# Altium integrated library Linear Technology Power Management LDO Linear Regulators.IntLib: 2339 symbols (part 13 of 131)
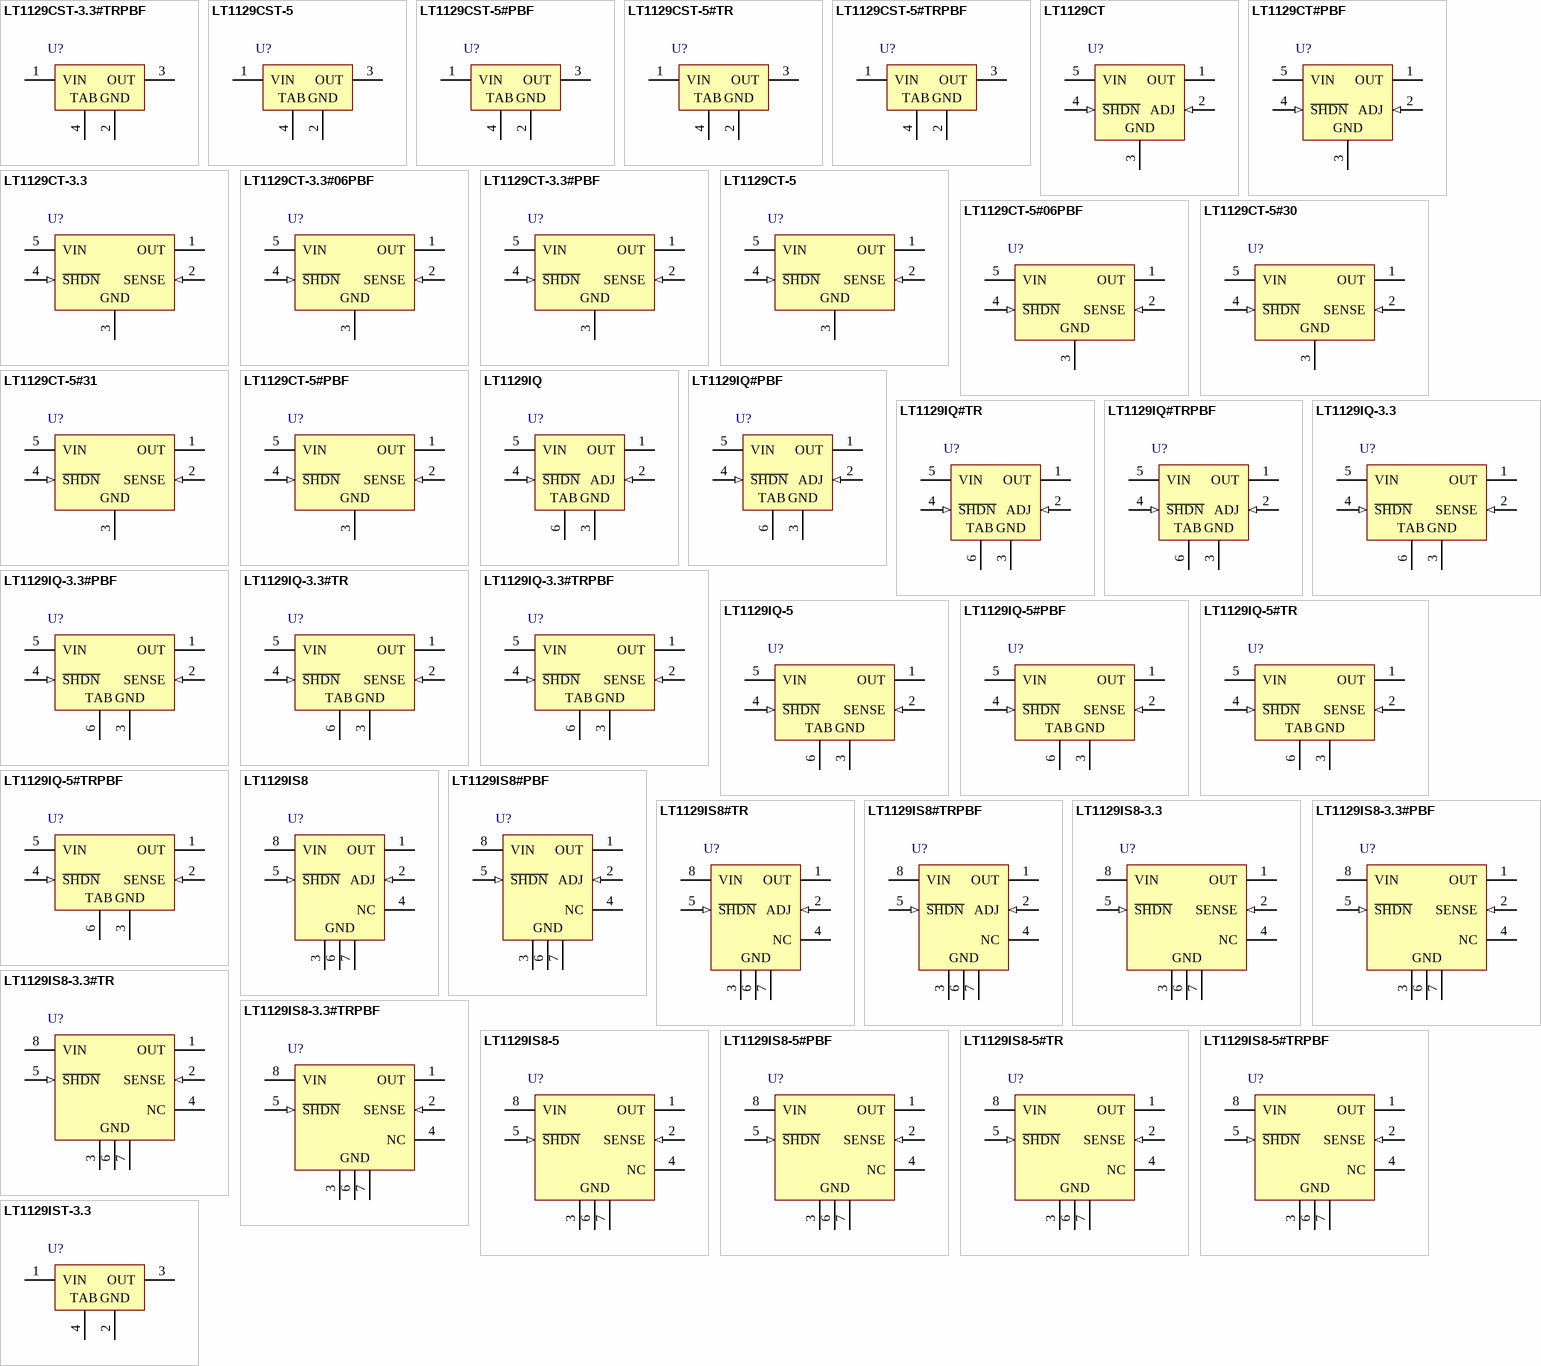
[diagram p81: symbols LT1129CST-3.3#TRPBF to LT1129IST-3.3]

## LT1129CST-3.3#TRPBF
designator U?
Micropower Low Dropout Regulator with Shutdown, 4.15 to 30 V Vin, 3.3 V Vout, 3-pin SOT223 (ST-3), 0 to 125 degC, Pb-Free, Tape and Reel; Manufacturer: Linear Technology; PartNumber: LT1129CST-3.3#TRPBF; Discrete Pass Element: no; Dropout Voltage(V): 0.45; Iout(mA): 700; Isupply(mA): 0.05; Number of Outputs: 1; Output Voltage: 3.3 V; PSRR(dB): 64; Shutdown Current(uA): 16; Vin Max(V): 30; Vin Min(V): 4.15; DatasheetVersion: Rev. F; PackageVersion: Jun-10; PackageReference: ST-3; PackageDescription: 3-Pin Plastic SOT-223, 3.505 x 6.505 mm Body, Pitch 2.3 mm; Supplier 1: Digi-Key; Supplier Part Number 1: LT1129CST-3.3#TRPBF-ND; Supplier 2: Newark; Supplier Part Number 2: 57M2067; Packing: Tape and Reel; RoHS: TRUE; Mounting Technology: Surface Mount; ComponentLink1Description: Manufacturer URL; ComponentLink1URL: http://www.linear.com/; ComponentLink2Description: Datasheet; ComponentLink2URL: http://cds.linear.com/docs/en/datasheet/112935ff.pdf; ComponentLink3Description: Package Specification; ComponentLink3URL: http://cds.linear.com/docs/en/packaging/SOT_3_05-08-1630.pdf
footprint LT-ST-3-SOT-223_N (SOT223, 4-Leads, Body 6.505x3.505mm, Pitch 2.3mm, IPC Medium Density)
footprint LT-ST-3-SOT-223_L (SOT223, 4-Leads, Body 6.505x3.505mm, Pitch 2.3mm, IPC High Density)
footprint LT-ST-3-SOT-223_M (SOT223, 4-Leads, Body 6.505x3.505mm, Pitch 2.3mm, IPC Low Density)
pins: 1 VIN (power) "Power is supplied to the device through the input pin. The input pin should be bypassed to ground if the device is more than 6 inches away from the main input filter capacitor. In general, the output impedance of a battery (See Datasheet)", 2 GND (power), 3 OUT (power) "The output pin supplies power to the load. An output capacitor is required to prevent oscillations. See the Applications Information section for recommended value of output capacitance and information on reverse output (See Datasheet)", 4 TAB (power)

## LT1129CST-5
designator U?
Micropower Low Dropout Regulator with Shutdown, 4.15 to 30 V Vin, 5 V Vout, 3-pin SOT223 (ST-3), 0 to 125 degC; Manufacturer: Linear Technology; PartNumber: LT1129CST-5; Discrete Pass Element: no; Dropout Voltage(V): 0.45; Iout(mA): 700; Isupply(mA): 0.05; Number of Outputs: 1; Output Voltage: 5 V; PSRR(dB): 64; Shutdown Current(uA): 16; Vin Max(V): 30; Vin Min(V): 4.15; DatasheetVersion: Rev. F; PackageVersion: Jun-10; PackageReference: ST-3; PackageDescription: 3-Pin Plastic SOT-223, 3.505 x 6.505 mm Body, Pitch 2.3 mm; Supplier 1: Digi-Key; Supplier Part Number 1: LT1129CST-5-ND; Supplier 2: Newark; Supplier Part Number 2: 57M2068; RoHS: FALSE; Mounting Technology: Surface Mount; ComponentLink1Description: Manufacturer URL; ComponentLink1URL: http://www.linear.com/; ComponentLink2Description: Datasheet; ComponentLink2URL: http://cds.linear.com/docs/en/datasheet/112935ff.pdf; ComponentLink3Description: Package Specification; ComponentLink3URL: http://cds.linear.com/docs/en/packaging/SOT_3_05-08-1630.pdf
footprint LT-ST-3-SOT-223_N (SOT223, 4-Leads, Body 6.505x3.505mm, Pitch 2.3mm, IPC Medium Density)
footprint LT-ST-3-SOT-223_L (SOT223, 4-Leads, Body 6.505x3.505mm, Pitch 2.3mm, IPC High Density)
footprint LT-ST-3-SOT-223_M (SOT223, 4-Leads, Body 6.505x3.505mm, Pitch 2.3mm, IPC Low Density)
pins: 1 VIN (power) "Power is supplied to the device through the input pin. The input pin should be bypassed to ground if the device is more than 6 inches away from the main input filter capacitor. In general, the output impedance of a battery (See Datasheet)", 2 GND (power), 3 OUT (power) "The output pin supplies power to the load. An output capacitor is required to prevent oscillations. See the Applications Information section for recommended value of output capacitance and information on reverse output (See Datasheet)", 4 TAB (power)

## LT1129CST-5#PBF
designator U?
Micropower Low Dropout Regulator with Shutdown, 4.15 to 30 V Vin, 5 V Vout, 3-pin SOT223 (ST-3), 0 to 125 degC, Pb-Free; Manufacturer: Linear Technology; PartNumber: LT1129CST-5#PBF; Discrete Pass Element: no; Dropout Voltage(V): 0.45; Iout(mA): 700; Isupply(mA): 0.05; Number of Outputs: 1; Output Voltage: 5 V; PSRR(dB): 64; Shutdown Current(uA): 16; Vin Max(V): 30; Vin Min(V): 4.15; DatasheetVersion: Rev. F; PackageVersion: Jun-10; PackageReference: ST-3; PackageDescription: 3-Pin Plastic SOT-223, 3.505 x 6.505 mm Body, Pitch 2.3 mm; Supplier 1: Digi-Key; Supplier Part Number 1: LT1129CST-5#PBF-ND; Supplier 2: Farnell; Supplier Part Number 2: 1663375; Supplier 3: Newark; Supplier Part Number 3: 57M2069; RoHS: TRUE; Mounting Technology: Surface Mount; ComponentLink1Description: Manufacturer URL; ComponentLink1URL: http://www.linear.com/; ComponentLink2Description: Datasheet; ComponentLink2URL: http://cds.linear.com/docs/en/datasheet/112935ff.pdf; ComponentLink3Description: Package Specification; ComponentLink3URL: http://cds.linear.com/docs/en/packaging/SOT_3_05-08-1630.pdf
footprint LT-ST-3-SOT-223_N (SOT223, 4-Leads, Body 6.505x3.505mm, Pitch 2.3mm, IPC Medium Density)
footprint LT-ST-3-SOT-223_L (SOT223, 4-Leads, Body 6.505x3.505mm, Pitch 2.3mm, IPC High Density)
footprint LT-ST-3-SOT-223_M (SOT223, 4-Leads, Body 6.505x3.505mm, Pitch 2.3mm, IPC Low Density)
pins: 1 VIN (power) "Power is supplied to the device through the input pin. The input pin should be bypassed to ground if the device is more than 6 inches away from the main input filter capacitor. In general, the output impedance of a battery (See Datasheet)", 2 GND (power), 3 OUT (power) "The output pin supplies power to the load. An output capacitor is required to prevent oscillations. See the Applications Information section for recommended value of output capacitance and information on reverse output (See Datasheet)", 4 TAB (power)

## LT1129CST-5#TR
designator U?
Micropower Low Dropout Regulator with Shutdown, 4.15 to 30 V Vin, 5 V Vout, 3-pin SOT223 (ST-3), 0 to 125 degC, Tape and Reel; Manufacturer: Linear Technology; PartNumber: LT1129CST-5#TR; Discrete Pass Element: no; Dropout Voltage(V): 0.45; Iout(mA): 700; Isupply(mA): 0.05; Number of Outputs: 1; Output Voltage: 5 V; PSRR(dB): 64; Shutdown Current(uA): 16; Vin Max(V): 30; Vin Min(V): 4.15; DatasheetVersion: Rev. F; PackageVersion: Jun-10; PackageReference: ST-3; PackageDescription: 3-Pin Plastic SOT-223, 3.505 x 6.505 mm Body, Pitch 2.3 mm; Supplier 1: Digi-Key; Supplier Part Number 1: LT1129CST-5#TR-ND; Packing: Tape and Reel; RoHS: FALSE; Mounting Technology: Surface Mount; ComponentLink1Description: Manufacturer URL; ComponentLink1URL: http://www.linear.com/; ComponentLink2Description: Datasheet; ComponentLink2URL: http://cds.linear.com/docs/en/datasheet/112935ff.pdf; ComponentLink3Description: Package Specification; ComponentLink3URL: http://cds.linear.com/docs/en/packaging/SOT_3_05-08-1630.pdf
footprint LT-ST-3-SOT-223_N (SOT223, 4-Leads, Body 6.505x3.505mm, Pitch 2.3mm, IPC Medium Density)
footprint LT-ST-3-SOT-223_L (SOT223, 4-Leads, Body 6.505x3.505mm, Pitch 2.3mm, IPC High Density)
footprint LT-ST-3-SOT-223_M (SOT223, 4-Leads, Body 6.505x3.505mm, Pitch 2.3mm, IPC Low Density)
pins: 1 VIN (power) "Power is supplied to the device through the input pin. The input pin should be bypassed to ground if the device is more than 6 inches away from the main input filter capacitor. In general, the output impedance of a battery (See Datasheet)", 2 GND (power), 3 OUT (power) "The output pin supplies power to the load. An output capacitor is required to prevent oscillations. See the Applications Information section for recommended value of output capacitance and information on reverse output (See Datasheet)", 4 TAB (power)

## LT1129CST-5#TRPBF
designator U?
Micropower Low Dropout Regulator with Shutdown, 4.15 to 30 V Vin, 5 V Vout, 3-pin SOT223 (ST-3), 0 to 125 degC, Pb-Free, Tape and Reel; Manufacturer: Linear Technology; PartNumber: LT1129CST-5#TRPBF; Discrete Pass Element: no; Dropout Voltage(V): 0.45; Iout(mA): 700; Isupply(mA): 0.05; Number of Outputs: 1; Output Voltage: 5 V; PSRR(dB): 64; Shutdown Current(uA): 16; Vin Max(V): 30; Vin Min(V): 4.15; DatasheetVersion: Rev. F; PackageVersion: Jun-10; PackageReference: ST-3; PackageDescription: 3-Pin Plastic SOT-223, 3.505 x 6.505 mm Body, Pitch 2.3 mm; Supplier 1: Digi-Key; Supplier Part Number 1: LT1129CST-5#TRPBF-ND; Supplier 2: Newark; Supplier Part Number 2: 57M2071; Packing: Tape and Reel; RoHS: TRUE; Mounting Technology: Surface Mount; ComponentLink1Description: Manufacturer URL; ComponentLink1URL: http://www.linear.com/; ComponentLink2Description: Datasheet; ComponentLink2URL: http://cds.linear.com/docs/en/datasheet/112935ff.pdf; ComponentLink3Description: Package Specification; ComponentLink3URL: http://cds.linear.com/docs/en/packaging/SOT_3_05-08-1630.pdf
footprint LT-ST-3-SOT-223_N (SOT223, 4-Leads, Body 6.505x3.505mm, Pitch 2.3mm, IPC Medium Density)
footprint LT-ST-3-SOT-223_L (SOT223, 4-Leads, Body 6.505x3.505mm, Pitch 2.3mm, IPC High Density)
footprint LT-ST-3-SOT-223_M (SOT223, 4-Leads, Body 6.505x3.505mm, Pitch 2.3mm, IPC Low Density)
pins: 1 VIN (power) "Power is supplied to the device through the input pin. The input pin should be bypassed to ground if the device is more than 6 inches away from the main input filter capacitor. In general, the output impedance of a battery (See Datasheet)", 2 GND (power), 3 OUT (power) "The output pin supplies power to the load. An output capacitor is required to prevent oscillations. See the Applications Information section for recommended value of output capacitance and information on reverse output (See Datasheet)", 4 TAB (power)

## LT1129CT
designator U?
Micropower Low Dropout Regulator with Shutdown, 4.15 to 30 V Vin, Adjustable Vout, 5-pin FM (T-5), 0 to 125 degC; Manufacturer: Linear Technology; PartNumber: LT1129CT; Discrete Pass Element: no; Dropout Voltage(V): 0.45; Iout(mA): 700; Isupply(mA): 0.05; Number of Outputs: 1; Output Voltage: Adj; PSRR(dB): 64; Shutdown Current(uA): 16; Vin Max(V): 30; Vin Min(V): 4.15; Vout Min(V): 3.8; DatasheetVersion: Rev. F; PackageVersion: Aug-10; PackageReference: T-5; PackageDescription: 5-Pin Plastic TO-220 (Standard), Body 10.224 x 8.89 mm, Pitch 1.7 mm; Supplier 1: Digi-Key; Supplier Part Number 1: LT1129CT-ND; RoHS: FALSE; Vout Max(V): 30; Mounting Technology: Through Hole; ComponentLink1Description: Manufacturer URL; ComponentLink1URL: http://www.linear.com/; ComponentLink2Description: Datasheet; ComponentLink2URL: http://cds.linear.com/docs/en/datasheet/112935ff.pdf; ComponentLink3Description: Package Specification; ComponentLink3URL: http://cds.linear.com/docs/en/packaging/TO-220_5_05-08-1421.pdf
footprint LT-T-5-S (FM, 5-Leads, Body 10.2235x4.3815mm, Pitch 1.7mm)
pins: 1 OUT (power), 2 ADJ (in), 3 GND (power), 4 ~{SHDN} (in), 5 VIN (power)

## LT1129CT#PBF
designator U?
Micropower Low Dropout Regulator with Shutdown, 4.15 to 30 V Vin, Adjustable Vout, 5-pin FM (T-5), 0 to 125 degC, Pb-Free; Manufacturer: Linear Technology; PartNumber: LT1129CT#PBF; Discrete Pass Element: no; Dropout Voltage(V): 0.45; Iout(mA): 700; Isupply(mA): 0.05; Number of Outputs: 1; Output Voltage: Adj; PSRR(dB): 64; Shutdown Current(uA): 16; Vin Max(V): 30; Vin Min(V): 4.15; Vout Min(V): 3.8; DatasheetVersion: Rev. F; PackageVersion: Aug-10; PackageReference: T-5; PackageDescription: 5-Pin Plastic TO-220 (Standard), Body 10.224 x 8.89 mm, Pitch 1.7 mm; Supplier 1: Digi-Key; Supplier Part Number 1: LT1129CT#PBF-ND; Supplier 2: Farnell; Supplier Part Number 2: 9560092; Supplier 3: Newark; Supplier Part Number 3: 57M2089; RoHS: TRUE; Vout Max(V): 30; Mounting Technology: Through Hole; ComponentLink1Description: Manufacturer URL; ComponentLink1URL: http://www.linear.com/; ComponentLink2Description: Datasheet; ComponentLink2URL: http://cds.linear.com/docs/en/datasheet/112935ff.pdf; ComponentLink3Description: Package Specification; ComponentLink3URL: http://cds.linear.com/docs/en/packaging/TO-220_5_05-08-1421.pdf
footprint LT-T-5-S (FM, 5-Leads, Body 10.2235x4.3815mm, Pitch 1.7mm)
pins: 1 OUT (power), 2 ADJ (in), 3 GND (power), 4 ~{SHDN} (in), 5 VIN (power)

## LT1129CT-3.3
designator U?
Micropower Low Dropout Regulator with Shutdown, 4.15 to 30 V Vin, 3.3 V Vout, 5-pin FM (T-5), 0 to 125 degC; Manufacturer: Linear Technology; PartNumber: LT1129CT-3.3; Discrete Pass Element: no; Dropout Voltage(V): 0.45; Iout(mA): 700; Isupply(mA): 0.05; Number of Outputs: 1; Output Voltage: 3.3 V; PSRR(dB): 64; Shutdown Current(uA): 16; Vin Max(V): 30; Vin Min(V): 4.15; DatasheetVersion: Rev. F; PackageVersion: Aug-10; PackageReference: T-5; PackageDescription: 5-Pin Plastic TO-220 (Standard), Body 10.224 x 8.89 mm, Pitch 1.7 mm; Supplier 1: Digi-Key; Supplier Part Number 1: LT1129CT-3.3-ND; RoHS: FALSE; Mounting Technology: Through Hole; ComponentLink1Description: Manufacturer URL; ComponentLink1URL: http://www.linear.com/; ComponentLink2Description: Datasheet; ComponentLink2URL: http://cds.linear.com/docs/en/datasheet/112935ff.pdf; ComponentLink3Description: Package Specification; ComponentLink3URL: http://cds.linear.com/docs/en/packaging/TO-220_5_05-08-1421.pdf
footprint LT-T-5-S (FM, 5-Leads, Body 10.2235x4.3815mm, Pitch 1.7mm)
pins: 1 OUT (power) "OUTPUT Pin.", 2 SENSE (in), 3 GND (power), 4 ~{SHDN} (in) "Shutdown Pin.", 5 VIN (power) "Input Pin."

## LT1129CT-3.3#06PBF
designator U?
Micropower Low Dropout Regulator with Shutdown, 4.15 to 30 V Vin, 3.3 V Vout, 5-pin FM (T-5), 0 to 125 degC, Pb-Free; Manufacturer: Linear Technology; PartNumber: LT1129CT-3.3#06PBF; Discrete Pass Element: no; Dropout Voltage(V): 0.45; Iout(mA): 700; Isupply(mA): 0.05; Number of Outputs: 1; Output Voltage: 3.3 V; PSRR(dB): 64; Shutdown Current(uA): 16; Vin Max(V): 30; Vin Min(V): 4.15; DatasheetVersion: Rev. F; PackageVersion: Aug-10; PackageReference: T-5; PackageDescription: 5-Pin Plastic TO-220 (Standard), Body 10.224 x 8.89 mm, Pitch 1.7 mm; Supplier 1: Digi-Key; Supplier Part Number 1: LT1129CT-3.3#06PBF-ND; RoHS: TRUE; Mounting Technology: Through Hole; ComponentLink1Description: Manufacturer URL; ComponentLink1URL: http://www.linear.com/; ComponentLink2Description: Datasheet; ComponentLink2URL: http://cds.linear.com/docs/en/datasheet/112935ff.pdf; ComponentLink3Description: Package Specification; ComponentLink3URL: http://cds.linear.com/docs/en/packaging/TO-220_5_05-08-1421.pdf
footprint LT-T-5-S (FM, 5-Leads, Body 10.2235x4.3815mm, Pitch 1.7mm)
pins: 1 OUT (power) "OUTPUT Pin.", 2 SENSE (in), 3 GND (power), 4 ~{SHDN} (in) "Shutdown Pin.", 5 VIN (power) "Input Pin."

## LT1129CT-3.3#PBF
designator U?
Micropower Low Dropout Regulator with Shutdown, 4.15 to 30 V Vin, 3.3 V Vout, 5-pin FM (T-5), 0 to 125 degC, Pb-Free; Manufacturer: Linear Technology; PartNumber: LT1129CT-3.3#PBF; Discrete Pass Element: no; Dropout Voltage(V): 0.45; Iout(mA): 700; Isupply(mA): 0.05; Number of Outputs: 1; Output Voltage: 3.3 V; PSRR(dB): 64; Shutdown Current(uA): 16; Vin Max(V): 30; Vin Min(V): 4.15; DatasheetVersion: Rev. F; PackageVersion: Aug-10; PackageReference: T-5; PackageDescription: 5-Pin Plastic TO-220 (Standard), Body 10.224 x 8.89 mm, Pitch 1.7 mm; Supplier 1: Digi-Key; Supplier Part Number 1: LT1129CT-3.3#PBF-ND; RoHS: TRUE; Mounting Technology: Through Hole; ComponentLink1Description: Manufacturer URL; ComponentLink1URL: http://www.linear.com/; ComponentLink2Description: Datasheet; ComponentLink2URL: http://cds.linear.com/docs/en/datasheet/112935ff.pdf; ComponentLink3Description: Package Specification; ComponentLink3URL: http://cds.linear.com/docs/en/packaging/TO-220_5_05-08-1421.pdf
footprint LT-T-5-S (FM, 5-Leads, Body 10.2235x4.3815mm, Pitch 1.7mm)
pins: 1 OUT (power) "OUTPUT Pin.", 2 SENSE (in), 3 GND (power), 4 ~{SHDN} (in) "Shutdown Pin.", 5 VIN (power) "Input Pin."

## LT1129CT-5
designator U?
Micropower Low Dropout Regulator with Shutdown, 4.15 to 30 V Vin, 5 V Vout, 5-pin FM (T-5), 0 to 125 degC; Manufacturer: Linear Technology; PartNumber: LT1129CT-5; Discrete Pass Element: no; Dropout Voltage(V): 0.45; Iout(mA): 700; Isupply(mA): 0.05; Number of Outputs: 1; Output Voltage: 5 V; PSRR(dB): 64; Shutdown Current(uA): 16; Vin Max(V): 30; Vin Min(V): 4.15; DatasheetVersion: Rev. F; PackageVersion: Aug-10; PackageReference: T-5; PackageDescription: 5-Pin Plastic TO-220 (Standard), Body 10.224 x 8.89 mm, Pitch 1.7 mm; Supplier 1: Digi-Key; Supplier Part Number 1: LT1129CT-5-ND; RoHS: FALSE; Mounting Technology: Through Hole; ComponentLink1Description: Manufacturer URL; ComponentLink1URL: http://www.linear.com/; ComponentLink2Description: Datasheet; ComponentLink2URL: http://cds.linear.com/docs/en/datasheet/112935ff.pdf; ComponentLink3Description: Package Specification; ComponentLink3URL: http://cds.linear.com/docs/en/packaging/TO-220_5_05-08-1421.pdf
footprint LT-T-5-S (FM, 5-Leads, Body 10.2235x4.3815mm, Pitch 1.7mm)
pins: 1 OUT (power) "OUTPUT Pin.", 2 SENSE (in), 3 GND (power), 4 ~{SHDN} (in) "Shutdown Pin.", 5 VIN (power) "Input Pin."

## LT1129CT-5#06PBF
designator U?
Micropower Low Dropout Regulator with Shutdown, 4.15 to 30 V Vin, 5 V Vout, 5-pin FM (T-5), 0 to 125 degC, Pb-Free; Manufacturer: Linear Technology; PartNumber: LT1129CT-5#06PBF; Discrete Pass Element: no; Dropout Voltage(V): 0.45; Iout(mA): 700; Isupply(mA): 0.05; Number of Outputs: 1; Output Voltage: 5 V; PSRR(dB): 64; Shutdown Current(uA): 16; Vin Max(V): 30; Vin Min(V): 4.15; DatasheetVersion: Rev. F; PackageVersion: Aug-10; PackageReference: T-5; PackageDescription: 5-Pin Plastic TO-220 (Standard), Body 10.224 x 8.89 mm, Pitch 1.7 mm; Supplier 1: Digi-Key; Supplier Part Number 1: LT1129CT-5#06PBF-ND; RoHS: TRUE; Mounting Technology: Through Hole; ComponentLink1Description: Manufacturer URL; ComponentLink1URL: http://www.linear.com/; ComponentLink2Description: Datasheet; ComponentLink2URL: http://cds.linear.com/docs/en/datasheet/112935ff.pdf; ComponentLink3Description: Package Specification; ComponentLink3URL: http://cds.linear.com/docs/en/packaging/TO-220_5_05-08-1421.pdf
footprint LT-T-5-S (FM, 5-Leads, Body 10.2235x4.3815mm, Pitch 1.7mm)
pins: 1 OUT (power) "OUTPUT Pin.", 2 SENSE (in), 3 GND (power), 4 ~{SHDN} (in) "Shutdown Pin.", 5 VIN (power) "Input Pin."

## LT1129CT-5#30
designator U?
Micropower Low Dropout Regulator with Shutdown, 4.15 to 30 V Vin, 5 V Vout, 5-pin FM (T-5), 0 to 125 degC; Manufacturer: Linear Technology; PartNumber: LT1129CT-5#30; Discrete Pass Element: no; Dropout Voltage(V): 0.45; Iout(mA): 700; Isupply(mA): 0.05; Number of Outputs: 1; Output Voltage: 5 V; PSRR(dB): 64; Shutdown Current(uA): 16; Vin Max(V): 30; Vin Min(V): 4.15; DatasheetVersion: Rev. F; PackageVersion: Aug-10; PackageReference: T-5; PackageDescription: 5-Pin Plastic TO-220 (Standard), Body 10.224 x 8.89 mm, Pitch 1.7 mm; RoHS: FALSE; Mounting Technology: Through Hole; ComponentLink1Description: Manufacturer URL; ComponentLink1URL: http://www.linear.com/; ComponentLink2Description: Datasheet; ComponentLink2URL: http://cds.linear.com/docs/en/datasheet/112935ff.pdf; ComponentLink3Description: Package Specification; ComponentLink3URL: http://cds.linear.com/docs/en/packaging/TO-220_5_05-08-1421.pdf
footprint LT-T-5-S (FM, 5-Leads, Body 10.2235x4.3815mm, Pitch 1.7mm)
pins: 1 OUT (power) "OUTPUT Pin.", 2 SENSE (in), 3 GND (power), 4 ~{SHDN} (in) "Shutdown Pin.", 5 VIN (power) "Input Pin."

## LT1129CT-5#31
designator U?
Micropower Low Dropout Regulator with Shutdown, 4.15 to 30 V Vin, 5 V Vout, 5-pin FM (T-5), 0 to 125 degC; Manufacturer: Linear Technology; PartNumber: LT1129CT-5#31; Discrete Pass Element: no; Dropout Voltage(V): 0.45; Iout(mA): 700; Isupply(mA): 0.05; Number of Outputs: 1; Output Voltage: 5 V; PSRR(dB): 64; Shutdown Current(uA): 16; Vin Max(V): 30; Vin Min(V): 4.15; DatasheetVersion: Rev. F; PackageVersion: Aug-10; PackageReference: T-5; PackageDescription: 5-Pin Plastic TO-220 (Standard), Body 10.224 x 8.89 mm, Pitch 1.7 mm; RoHS: FALSE; Mounting Technology: Through Hole; ComponentLink1Description: Manufacturer URL; ComponentLink1URL: http://www.linear.com/; ComponentLink2Description: Datasheet; ComponentLink2URL: http://cds.linear.com/docs/en/datasheet/112935ff.pdf; ComponentLink3Description: Package Specification; ComponentLink3URL: http://cds.linear.com/docs/en/packaging/TO-220_5_05-08-1421.pdf
footprint LT-T-5-S (FM, 5-Leads, Body 10.2235x4.3815mm, Pitch 1.7mm)
pins: 1 OUT (power) "OUTPUT Pin.", 2 SENSE (in), 3 GND (power), 4 ~{SHDN} (in) "Shutdown Pin.", 5 VIN (power) "Input Pin."

## LT1129CT-5#PBF
designator U?
Micropower Low Dropout Regulator with Shutdown, 4.15 to 30 V Vin, 5 V Vout, 5-pin FM (T-5), 0 to 125 degC, Pb-Free; Manufacturer: Linear Technology; PartNumber: LT1129CT-5#PBF; Discrete Pass Element: no; Dropout Voltage(V): 0.45; Iout(mA): 700; Isupply(mA): 0.05; Number of Outputs: 1; Output Voltage: 5 V; PSRR(dB): 64; Shutdown Current(uA): 16; Vin Max(V): 30; Vin Min(V): 4.15; DatasheetVersion: Rev. F; PackageVersion: Aug-10; PackageReference: T-5; PackageDescription: 5-Pin Plastic TO-220 (Standard), Body 10.224 x 8.89 mm, Pitch 1.7 mm; Supplier 1: Digi-Key; Supplier Part Number 1: LT1129CT-5#PBF-ND; Supplier 2: Farnell; Supplier Part Number 2: 1627500; Supplier 3: Newark; Supplier Part Number 3: 57M2088; RoHS: TRUE; Mounting Technology: Through Hole; ComponentLink1Description: Manufacturer URL; ComponentLink1URL: http://www.linear.com/; ComponentLink2Description: Datasheet; ComponentLink2URL: http://cds.linear.com/docs/en/datasheet/112935ff.pdf; ComponentLink3Description: Package Specification; ComponentLink3URL: http://cds.linear.com/docs/en/packaging/TO-220_5_05-08-1421.pdf
footprint LT-T-5-S (FM, 5-Leads, Body 10.2235x4.3815mm, Pitch 1.7mm)
pins: 1 OUT (power) "OUTPUT Pin.", 2 SENSE (in), 3 GND (power), 4 ~{SHDN} (in) "Shutdown Pin.", 5 VIN (power) "Input Pin."

## LT1129IQ
designator U?
Micropower Low Dropout Regulator with Shutdown, 4.15 to 30 V Vin, Adjustable Vout, 5-pin DPAK (Q-5), -40 to 125 degC; Manufacturer: Linear Technology; PartNumber: LT1129IQ; Discrete Pass Element: no; Dropout Voltage(V): 0.45; Iout(mA): 700; Isupply(mA): 0.05; Number of Outputs: 1; Output Voltage: Adj; PSRR(dB): 64; Shutdown Current(uA): 16; Vin Max(V): 30; Vin Min(V): 4.15; Vout Min(V): 3.8; DatasheetVersion: Rev. F; PackageVersion: Rev. F, 09/2011; PackageReference: Q-5; PackageDescription: 5-Pin Plastic DD Pak, Body 10.2235 x 8.89 mm, Pitch 1.702 mm; Supplier 1: Digi-Key; Supplier Part Number 1: LT1129IQ-ND; Supplier 2: Newark; Supplier Part Number 2: 57M2090; RoHS: FALSE; Vout Max(V): 30; Mounting Technology: Surface Mount; ComponentLink1Description: Manufacturer URL; ComponentLink1URL: http://www.linear.com/; ComponentLink2Description: Datasheet; ComponentLink2URL: http://cds.linear.com/docs/en/datasheet/112935ff.pdf; ComponentLink3Description: Package Specification; ComponentLink3URL: http://cds.linear.com/docs/en/packaging/Q%20DD5%2005-08-1461%20Rev%20F.pdf
footprint LT-Q-5_N (DPAK, 5-Leads, Body 10.22x8.89mm, Pitch 1.702mm, IPC Medium Density)
footprint LT-Q-5_L (DPAK, 5-Leads, Body 10.22x8.89mm, Pitch 1.702mm, IPC High Density)
footprint LT-Q-5_M (DPAK, 5-Leads, Body 10.22x8.89mm, Pitch 1.702mm, IPC Low Density)
pins: 1 OUT (power), 2 ADJ (in), 3 GND (power), 4 ~{SHDN} (in), 5 VIN (power), 6 TAB (power)

## LT1129IQ#PBF
designator U?
Micropower Low Dropout Regulator with Shutdown, 4.15 to 30 V Vin, Adjustable Vout, 5-pin DPAK (Q-5), -40 to 125 degC, Pb-Free; Manufacturer: Linear Technology; PartNumber: LT1129IQ#PBF; Discrete Pass Element: no; Dropout Voltage(V): 0.45; Iout(mA): 700; Isupply(mA): 0.05; Number of Outputs: 1; Output Voltage: Adj; PSRR(dB): 64; Shutdown Current(uA): 16; Vin Max(V): 30; Vin Min(V): 4.15; Vout Min(V): 3.8; DatasheetVersion: Rev. F; PackageVersion: Rev. F, 09/2011; PackageReference: Q-5; PackageDescription: 5-Pin Plastic DD Pak, Body 10.2235 x 8.89 mm, Pitch 1.702 mm; Supplier 1: Digi-Key; Supplier Part Number 1: LT1129IQ#PBF-ND; Supplier 2: Farnell; Supplier Part Number 2: 1663376; Supplier 3: Newark; Supplier Part Number 3: 57M2098; RoHS: TRUE; Vout Max(V): 30; Mounting Technology: Surface Mount; ComponentLink1Description: Manufacturer URL; ComponentLink1URL: http://www.linear.com/; ComponentLink2Description: Datasheet; ComponentLink2URL: http://cds.linear.com/docs/en/datasheet/112935ff.pdf; ComponentLink3Description: Package Specification; ComponentLink3URL: http://cds.linear.com/docs/en/packaging/Q%20DD5%2005-08-1461%20Rev%20F.pdf
footprint LT-Q-5_N (DPAK, 5-Leads, Body 10.22x8.89mm, Pitch 1.702mm, IPC Medium Density)
footprint LT-Q-5_L (DPAK, 5-Leads, Body 10.22x8.89mm, Pitch 1.702mm, IPC High Density)
footprint LT-Q-5_M (DPAK, 5-Leads, Body 10.22x8.89mm, Pitch 1.702mm, IPC Low Density)
pins: 1 OUT (power), 2 ADJ (in), 3 GND (power), 4 ~{SHDN} (in), 5 VIN (power), 6 TAB (power)

## LT1129IQ#TR
designator U?
Micropower Low Dropout Regulator with Shutdown, 4.15 to 30 V Vin, Adjustable Vout, 5-pin DPAK (Q-5), -40 to 125 degC, Tape and Reel; Manufacturer: Linear Technology; PartNumber: LT1129IQ#TR; Discrete Pass Element: no; Dropout Voltage(V): 0.45; Iout(mA): 700; Isupply(mA): 0.05; Number of Outputs: 1; Output Voltage: Adj; PSRR(dB): 64; Shutdown Current(uA): 16; Vin Max(V): 30; Vin Min(V): 4.15; Vout Min(V): 3.8; DatasheetVersion: Rev. F; PackageVersion: Rev. F, 09/2011; PackageReference: Q-5; PackageDescription: 5-Pin Plastic DD Pak, Body 10.2235 x 8.89 mm, Pitch 1.702 mm; Supplier 1: Digi-Key; Supplier Part Number 1: LT1129IQ#TR-ND; Supplier 2: Newark; Supplier Part Number 2: 57M2099; Packing: Tape and Reel; RoHS: FALSE; Vout Max(V): 30; Mounting Technology: Surface Mount; ComponentLink1Description: Manufacturer URL; ComponentLink1URL: http://www.linear.com/; ComponentLink2Description: Datasheet; ComponentLink2URL: http://cds.linear.com/docs/en/datasheet/112935ff.pdf; ComponentLink3Description: Package Specification; ComponentLink3URL: http://cds.linear.com/docs/en/packaging/Q%20DD5%2005-08-1461%20Rev%20F.pdf
footprint LT-Q-5_N (DPAK, 5-Leads, Body 10.22x8.89mm, Pitch 1.702mm, IPC Medium Density)
footprint LT-Q-5_L (DPAK, 5-Leads, Body 10.22x8.89mm, Pitch 1.702mm, IPC High Density)
footprint LT-Q-5_M (DPAK, 5-Leads, Body 10.22x8.89mm, Pitch 1.702mm, IPC Low Density)
pins: 1 OUT (power), 2 ADJ (in), 3 GND (power), 4 ~{SHDN} (in), 5 VIN (power), 6 TAB (power)

## LT1129IQ#TRPBF
designator U?
Micropower Low Dropout Regulator with Shutdown, 4.15 to 30 V Vin, Adjustable Vout, 5-pin DPAK (Q-5), -40 to 125 degC, Pb-Free, Tape and Reel; Manufacturer: Linear Technology; PartNumber: LT1129IQ#TRPBF; Discrete Pass Element: no; Dropout Voltage(V): 0.45; Iout(mA): 700; Isupply(mA): 0.05; Number of Outputs: 1; Output Voltage: Adj; PSRR(dB): 64; Shutdown Current(uA): 16; Vin Max(V): 30; Vin Min(V): 4.15; Vout Min(V): 3.8; DatasheetVersion: Rev. F; PackageVersion: Rev. F, 09/2011; PackageReference: Q-5; PackageDescription: 5-Pin Plastic DD Pak, Body 10.2235 x 8.89 mm, Pitch 1.702 mm; Supplier 1: Digi-Key; Supplier Part Number 1: LT1129IQ#TRPBFTR-ND; Supplier 2: Digi-Key; Supplier Part Number 2: LT1129IQ#TRPBFCT-ND; Supplier 3: Digi-Key; Supplier Part Number 3: LT1129IQ#TRPBFDKR-ND; Supplier 4: Newark; Supplier Part Number 4: 57M2100; Packing: Tape and Reel; RoHS: TRUE; Vout Max(V): 30; Mounting Technology: Surface Mount; ComponentLink1Description: Manufacturer URL; ComponentLink1URL: http://www.linear.com/; ComponentLink2Description: Datasheet; ComponentLink2URL: http://cds.linear.com/docs/en/datasheet/112935ff.pdf; ComponentLink3Description: Package Specification; ComponentLink3URL: http://cds.linear.com/docs/en/packaging/Q%20DD5%2005-08-1461%20Rev%20F.pdf
footprint LT-Q-5_N (DPAK, 5-Leads, Body 10.22x8.89mm, Pitch 1.702mm, IPC Medium Density)
footprint LT-Q-5_L (DPAK, 5-Leads, Body 10.22x8.89mm, Pitch 1.702mm, IPC High Density)
footprint LT-Q-5_M (DPAK, 5-Leads, Body 10.22x8.89mm, Pitch 1.702mm, IPC Low Density)
pins: 1 OUT (power), 2 ADJ (in), 3 GND (power), 4 ~{SHDN} (in), 5 VIN (power), 6 TAB (power)

## LT1129IQ-3.3
designator U?
Micropower Low Dropout Regulator with Shutdown, 4.15 to 30 V Vin, 3.3 V Vout, 5-pin DPAK (Q-5), -40 to 125 degC; Manufacturer: Linear Technology; PartNumber: LT1129IQ-3.3; Discrete Pass Element: no; Dropout Voltage(V): 0.45; Iout(mA): 700; Isupply(mA): 0.05; Number of Outputs: 1; Output Voltage: 3.3 V; PSRR(dB): 64; Shutdown Current(uA): 16; Vin Max(V): 30; Vin Min(V): 4.15; DatasheetVersion: Rev. F; PackageVersion: Rev. F, 09/2011; PackageReference: Q-5; PackageDescription: 5-Pin Plastic DD Pak, Body 10.2235 x 8.89 mm, Pitch 1.702 mm; Supplier 1: Digi-Key; Supplier Part Number 1: LT1129IQ-3.3-ND; Supplier 2: Newark; Supplier Part Number 2: 57M2091; RoHS: FALSE; Mounting Technology: Surface Mount; ComponentLink1Description: Manufacturer URL; ComponentLink1URL: http://www.linear.com/; ComponentLink2Description: Datasheet; ComponentLink2URL: http://cds.linear.com/docs/en/datasheet/112935ff.pdf; ComponentLink3Description: Package Specification; ComponentLink3URL: http://cds.linear.com/docs/en/packaging/Q%20DD5%2005-08-1461%20Rev%20F.pdf
footprint LT-Q-5_N (DPAK, 5-Leads, Body 10.22x8.89mm, Pitch 1.702mm, IPC Medium Density)
footprint LT-Q-5_L (DPAK, 5-Leads, Body 10.22x8.89mm, Pitch 1.702mm, IPC High Density)
footprint LT-Q-5_M (DPAK, 5-Leads, Body 10.22x8.89mm, Pitch 1.702mm, IPC Low Density)
pins: 1 OUT (power), 2 SENSE (in), 3 GND (power), 4 ~{SHDN} (in), 5 VIN (power), 6 TAB (power)

## LT1129IQ-3.3#PBF
designator U?
Micropower Low Dropout Regulator with Shutdown, 4.15 to 30 V Vin, 3.3 V Vout, 5-pin DPAK (Q-5), -40 to 125 degC, Pb-Free; Manufacturer: Linear Technology; PartNumber: LT1129IQ-3.3#PBF; Discrete Pass Element: no; Dropout Voltage(V): 0.45; Iout(mA): 700; Isupply(mA): 0.05; Number of Outputs: 1; Output Voltage: 3.3 V; PSRR(dB): 64; Shutdown Current(uA): 16; Vin Max(V): 30; Vin Min(V): 4.15; DatasheetVersion: Rev. F; PackageVersion: Rev. F, 09/2011; PackageReference: Q-5; PackageDescription: 5-Pin Plastic DD Pak, Body 10.2235 x 8.89 mm, Pitch 1.702 mm; Supplier 1: Digi-Key; Supplier Part Number 1: LT1129IQ-3.3#PBF-ND; Supplier 2: Farnell; Supplier Part Number 2: 2164940; Supplier 3: Newark; Supplier Part Number 3: 57M2092; RoHS: TRUE; Mounting Technology: Surface Mount; ComponentLink1Description: Manufacturer URL; ComponentLink1URL: http://www.linear.com/; ComponentLink2Description: Datasheet; ComponentLink2URL: http://cds.linear.com/docs/en/datasheet/112935ff.pdf; ComponentLink3Description: Package Specification; ComponentLink3URL: http://cds.linear.com/docs/en/packaging/Q%20DD5%2005-08-1461%20Rev%20F.pdf
footprint LT-Q-5_N (DPAK, 5-Leads, Body 10.22x8.89mm, Pitch 1.702mm, IPC Medium Density)
footprint LT-Q-5_L (DPAK, 5-Leads, Body 10.22x8.89mm, Pitch 1.702mm, IPC High Density)
footprint LT-Q-5_M (DPAK, 5-Leads, Body 10.22x8.89mm, Pitch 1.702mm, IPC Low Density)
pins: 1 OUT (power), 2 SENSE (in), 3 GND (power), 4 ~{SHDN} (in), 5 VIN (power), 6 TAB (power)

## LT1129IQ-3.3#TR
designator U?
Micropower Low Dropout Regulator with Shutdown, 4.15 to 30 V Vin, 3.3 V Vout, 5-pin DPAK (Q-5), -40 to 125 degC, Tape and Reel; Manufacturer: Linear Technology; PartNumber: LT1129IQ-3.3#TR; Discrete Pass Element: no; Dropout Voltage(V): 0.45; Iout(mA): 700; Isupply(mA): 0.05; Number of Outputs: 1; Output Voltage: 3.3 V; PSRR(dB): 64; Shutdown Current(uA): 16; Vin Max(V): 30; Vin Min(V): 4.15; DatasheetVersion: Rev. F; PackageVersion: Rev. F, 09/2011; PackageReference: Q-5; PackageDescription: 5-Pin Plastic DD Pak, Body 10.2235 x 8.89 mm, Pitch 1.702 mm; Supplier 1: Digi-Key; Supplier Part Number 1: LT1129IQ-3.3#TR-ND; Packing: Tape and Reel; RoHS: FALSE; Mounting Technology: Surface Mount; ComponentLink1Description: Manufacturer URL; ComponentLink1URL: http://www.linear.com/; ComponentLink2Description: Datasheet; ComponentLink2URL: http://cds.linear.com/docs/en/datasheet/112935ff.pdf; ComponentLink3Description: Package Specification; ComponentLink3URL: http://cds.linear.com/docs/en/packaging/Q%20DD5%2005-08-1461%20Rev%20F.pdf
footprint LT-Q-5_N (DPAK, 5-Leads, Body 10.22x8.89mm, Pitch 1.702mm, IPC Medium Density)
footprint LT-Q-5_L (DPAK, 5-Leads, Body 10.22x8.89mm, Pitch 1.702mm, IPC High Density)
footprint LT-Q-5_M (DPAK, 5-Leads, Body 10.22x8.89mm, Pitch 1.702mm, IPC Low Density)
pins: 1 OUT (power), 2 SENSE (in), 3 GND (power), 4 ~{SHDN} (in), 5 VIN (power), 6 TAB (power)

## LT1129IQ-3.3#TRPBF
designator U?
Micropower Low Dropout Regulator with Shutdown, 4.15 to 30 V Vin, 3.3 V Vout, 5-pin DPAK (Q-5), -40 to 125 degC, Pb-Free, Tape and Reel; Manufacturer: Linear Technology; PartNumber: LT1129IQ-3.3#TRPBF; Discrete Pass Element: no; Dropout Voltage(V): 0.45; Iout(mA): 700; Isupply(mA): 0.05; Number of Outputs: 1; Output Voltage: 3.3 V; PSRR(dB): 64; Shutdown Current(uA): 16; Vin Max(V): 30; Vin Min(V): 4.15; DatasheetVersion: Rev. F; PackageVersion: Rev. F, 09/2011; PackageReference: Q-5; PackageDescription: 5-Pin Plastic DD Pak, Body 10.2235 x 8.89 mm, Pitch 1.702 mm; Supplier 1: Digi-Key; Supplier Part Number 1: LT1129IQ-3.3#TRPBF-ND; Supplier 2: Newark; Supplier Part Number 2: 57M2094; Packing: Tape and Reel; RoHS: TRUE; Mounting Technology: Surface Mount; ComponentLink1Description: Manufacturer URL; ComponentLink1URL: http://www.linear.com/; ComponentLink2Description: Datasheet; ComponentLink2URL: http://cds.linear.com/docs/en/datasheet/112935ff.pdf; ComponentLink3Description: Package Specification; ComponentLink3URL: http://cds.linear.com/docs/en/packaging/Q%20DD5%2005-08-1461%20Rev%20F.pdf
footprint LT-Q-5_N (DPAK, 5-Leads, Body 10.22x8.89mm, Pitch 1.702mm, IPC Medium Density)
footprint LT-Q-5_L (DPAK, 5-Leads, Body 10.22x8.89mm, Pitch 1.702mm, IPC High Density)
footprint LT-Q-5_M (DPAK, 5-Leads, Body 10.22x8.89mm, Pitch 1.702mm, IPC Low Density)
pins: 1 OUT (power), 2 SENSE (in), 3 GND (power), 4 ~{SHDN} (in), 5 VIN (power), 6 TAB (power)

## LT1129IQ-5
designator U?
Micropower Low Dropout Regulator with Shutdown, 4.15 to 30 V Vin, 5 V Vout, 5-pin DPAK (Q-5), -40 to 125 degC; Manufacturer: Linear Technology; PartNumber: LT1129IQ-5; Discrete Pass Element: no; Dropout Voltage(V): 0.45; Iout(mA): 700; Isupply(mA): 0.05; Number of Outputs: 1; Output Voltage: 5 V; PSRR(dB): 64; Shutdown Current(uA): 16; Vin Max(V): 30; Vin Min(V): 4.15; DatasheetVersion: Rev. F; PackageVersion: Rev. F, 09/2011; PackageReference: Q-5; PackageDescription: 5-Pin Plastic DD Pak, Body 10.2235 x 8.89 mm, Pitch 1.702 mm; Supplier 1: Digi-Key; Supplier Part Number 1: LT1129IQ-5-ND; RoHS: FALSE; Mounting Technology: Surface Mount; ComponentLink1Description: Manufacturer URL; ComponentLink1URL: http://www.linear.com/; ComponentLink2Description: Datasheet; ComponentLink2URL: http://cds.linear.com/docs/en/datasheet/112935ff.pdf; ComponentLink3Description: Package Specification; ComponentLink3URL: http://cds.linear.com/docs/en/packaging/Q%20DD5%2005-08-1461%20Rev%20F.pdf
footprint LT-Q-5_N (DPAK, 5-Leads, Body 10.22x8.89mm, Pitch 1.702mm, IPC Medium Density)
footprint LT-Q-5_L (DPAK, 5-Leads, Body 10.22x8.89mm, Pitch 1.702mm, IPC High Density)
footprint LT-Q-5_M (DPAK, 5-Leads, Body 10.22x8.89mm, Pitch 1.702mm, IPC Low Density)
pins: 1 OUT (power), 2 SENSE (in), 3 GND (power), 4 ~{SHDN} (in), 5 VIN (power), 6 TAB (power)

## LT1129IQ-5#PBF
designator U?
Micropower Low Dropout Regulator with Shutdown, 4.15 to 30 V Vin, 5 V Vout, 5-pin DPAK (Q-5), -40 to 125 degC, Pb-Free; Manufacturer: Linear Technology; PartNumber: LT1129IQ-5#PBF; Discrete Pass Element: no; Dropout Voltage(V): 0.45; Iout(mA): 700; Isupply(mA): 0.05; Number of Outputs: 1; Output Voltage: 5 V; PSRR(dB): 64; Shutdown Current(uA): 16; Vin Max(V): 30; Vin Min(V): 4.15; DatasheetVersion: Rev. F; PackageVersion: Rev. F, 09/2011; PackageReference: Q-5; PackageDescription: 5-Pin Plastic DD Pak, Body 10.2235 x 8.89 mm, Pitch 1.702 mm; Supplier 1: Digi-Key; Supplier Part Number 1: LT1129IQ-5#PBF-ND; Supplier 2: Farnell; Supplier Part Number 2: 1663377; Supplier 3: Newark; Supplier Part Number 3: 57M2095; RoHS: TRUE; Mounting Technology: Surface Mount; ComponentLink1Description: Manufacturer URL; ComponentLink1URL: http://www.linear.com/; ComponentLink2Description: Datasheet; ComponentLink2URL: http://cds.linear.com/docs/en/datasheet/112935ff.pdf; ComponentLink3Description: Package Specification; ComponentLink3URL: http://cds.linear.com/docs/en/packaging/Q%20DD5%2005-08-1461%20Rev%20F.pdf
footprint LT-Q-5_N (DPAK, 5-Leads, Body 10.22x8.89mm, Pitch 1.702mm, IPC Medium Density)
footprint LT-Q-5_L (DPAK, 5-Leads, Body 10.22x8.89mm, Pitch 1.702mm, IPC High Density)
footprint LT-Q-5_M (DPAK, 5-Leads, Body 10.22x8.89mm, Pitch 1.702mm, IPC Low Density)
pins: 1 OUT (power), 2 SENSE (in), 3 GND (power), 4 ~{SHDN} (in), 5 VIN (power), 6 TAB (power)

## LT1129IQ-5#TR
designator U?
Micropower Low Dropout Regulator with Shutdown, 4.15 to 30 V Vin, 5 V Vout, 5-pin DPAK (Q-5), -40 to 125 degC, Tape and Reel; Manufacturer: Linear Technology; PartNumber: LT1129IQ-5#TR; Discrete Pass Element: no; Dropout Voltage(V): 0.45; Iout(mA): 700; Isupply(mA): 0.05; Number of Outputs: 1; Output Voltage: 5 V; PSRR(dB): 64; Shutdown Current(uA): 16; Vin Max(V): 30; Vin Min(V): 4.15; DatasheetVersion: Rev. F; PackageVersion: Rev. F, 09/2011; PackageReference: Q-5; PackageDescription: 5-Pin Plastic DD Pak, Body 10.2235 x 8.89 mm, Pitch 1.702 mm; Supplier 1: Digi-Key; Supplier Part Number 1: LT1129IQ-5#TR-ND; Packing: Tape and Reel; RoHS: FALSE; Mounting Technology: Surface Mount; ComponentLink1Description: Manufacturer URL; ComponentLink1URL: http://www.linear.com/; ComponentLink2Description: Datasheet; ComponentLink2URL: http://cds.linear.com/docs/en/datasheet/112935ff.pdf; ComponentLink3Description: Package Specification; ComponentLink3URL: http://cds.linear.com/docs/en/packaging/Q%20DD5%2005-08-1461%20Rev%20F.pdf
footprint LT-Q-5_N (DPAK, 5-Leads, Body 10.22x8.89mm, Pitch 1.702mm, IPC Medium Density)
footprint LT-Q-5_L (DPAK, 5-Leads, Body 10.22x8.89mm, Pitch 1.702mm, IPC High Density)
footprint LT-Q-5_M (DPAK, 5-Leads, Body 10.22x8.89mm, Pitch 1.702mm, IPC Low Density)
pins: 1 OUT (power), 2 SENSE (in), 3 GND (power), 4 ~{SHDN} (in), 5 VIN (power), 6 TAB (power)

## LT1129IQ-5#TRPBF
designator U?
Micropower Low Dropout Regulator with Shutdown, 4.15 to 30 V Vin, 5 V Vout, 5-pin DPAK (Q-5), -40 to 125 degC, Pb-Free, Tape and Reel; Manufacturer: Linear Technology; PartNumber: LT1129IQ-5#TRPBF; Discrete Pass Element: no; Dropout Voltage(V): 0.45; Iout(mA): 700; Isupply(mA): 0.05; Number of Outputs: 1; Output Voltage: 5 V; PSRR(dB): 64; Shutdown Current(uA): 16; Vin Max(V): 30; Vin Min(V): 4.15; DatasheetVersion: Rev. F; PackageVersion: Rev. F, 09/2011; PackageReference: Q-5; PackageDescription: 5-Pin Plastic DD Pak, Body 10.2235 x 8.89 mm, Pitch 1.702 mm; Supplier 1: Digi-Key; Supplier Part Number 1: LT1129IQ-5#TRPBF-ND; Supplier 2: Newark; Supplier Part Number 2: 57M2097; Packing: Tape and Reel; RoHS: TRUE; Mounting Technology: Surface Mount; ComponentLink1Description: Manufacturer URL; ComponentLink1URL: http://www.linear.com/; ComponentLink2Description: Datasheet; ComponentLink2URL: http://cds.linear.com/docs/en/datasheet/112935ff.pdf; ComponentLink3Description: Package Specification; ComponentLink3URL: http://cds.linear.com/docs/en/packaging/Q%20DD5%2005-08-1461%20Rev%20F.pdf
footprint LT-Q-5_N (DPAK, 5-Leads, Body 10.22x8.89mm, Pitch 1.702mm, IPC Medium Density)
footprint LT-Q-5_L (DPAK, 5-Leads, Body 10.22x8.89mm, Pitch 1.702mm, IPC High Density)
footprint LT-Q-5_M (DPAK, 5-Leads, Body 10.22x8.89mm, Pitch 1.702mm, IPC Low Density)
pins: 1 OUT (power), 2 SENSE (in), 3 GND (power), 4 ~{SHDN} (in), 5 VIN (power), 6 TAB (power)

## LT1129IS8
designator U?
Micropower Low Dropout Regulator with Shutdown, 4.15 to 30 V Vin, Adjustable Vout, 8-pin SOIC (S8-8), -40 to 125 degC; Manufacturer: Linear Technology; PartNumber: LT1129IS8; Discrete Pass Element: no; Dropout Voltage(V): 0.45; Iout(mA): 700; Isupply(mA): 0.05; Number of Outputs: 1; Output Voltage: Adj; PSRR(dB): 64; Shutdown Current(uA): 16; Vin Max(V): 30; Vin Min(V): 4.15; Vout Min(V): 3.8; DatasheetVersion: Rev. F; PackageVersion: Rev. G, 03/2012; PackageReference: S8-8; PackageDescription: 8-Pin Plastic Small Outline (Narrow .150 Inch), Body 4.9 x 3.9 mm, Pitch 1.27 mm; Supplier 1: Digi-Key; Supplier Part Number 1: LT1129IS8-ND; Supplier 2: Newark; Supplier Part Number 2: 57M2109; RoHS: FALSE; Vout Max(V): 30; Mounting Technology: Surface Mount; ComponentLink1Description: Manufacturer URL; ComponentLink1URL: http://www.linear.com/; ComponentLink2Description: Datasheet; ComponentLink2URL: http://cds.linear.com/docs/en/datasheet/112935ff.pdf; ComponentLink3Description: Package Specification; ComponentLink3URL: http://cds.linear.com/docs/en/packaging/05081610_G_SO8.pdf
footprint LT-S8-8_N (SOIC, 8-Leads, Body 4.9x3.9mm, Pitch 1.27mm, IPC Medium Density)
footprint LT-S8-8_L (SOIC, 8-Leads, Body 4.9x3.9mm, Pitch 1.27mm, IPC High Density)
footprint LT-S8-8_M (SOIC, 8-Leads, Body 4.9x3.9mm, Pitch 1.27mm, IPC Low Density)
pins: 1 OUT (power) "The output pin supplies power to the load. An output capacitor is required to prevent oscillations. See the Applications Information section for recommended value of output capacitance and information on reverse  output (See Datasheet)", 2 ADJ (in) "For the LT1129 (adjustable version) the adjust pin is the input to the error amplifier. This pin is internally clamped to 6V and -0.6V (one VBE). This pin has a bias current of 150nA which ?ows into the pin. See B(See Datasheet)", 3 GND (power), 4 NC, 5 ~{SHDN} (in) "This pin is used to put the device  into shutdown. In shutdown the output of the device is turned off. This pin is active low. The device will be shut down if the shutdown pin is actively pulled low. The  shutdown pin (See Datasheet)", 6 GND (power), 7 GND (power), 8 VIN (power) "Power is supplied to the device through the input pin. The input pin should be bypassed to ground if the device is more than 6 inches away from the main input ?lter capacitor. In general, the output impedance of a batter(See Datasheet)"

## LT1129IS8#PBF
designator U?
Micropower Low Dropout Regulator with Shutdown, 4.15 to 30 V Vin, Adjustable Vout, 8-pin SOIC (S8-8), -40 to 125 degC, Pb-Free; Manufacturer: Linear Technology; PartNumber: LT1129IS8#PBF; Discrete Pass Element: no; Dropout Voltage(V): 0.45; Iout(mA): 700; Isupply(mA): 0.05; Number of Outputs: 1; Output Voltage: Adj; PSRR(dB): 64; Shutdown Current(uA): 16; Vin Max(V): 30; Vin Min(V): 4.15; Vout Min(V): 3.8; DatasheetVersion: Rev. F; PackageVersion: Rev. G, 03/2012; PackageReference: S8-8; PackageDescription: 8-Pin Plastic Small Outline (Narrow .150 Inch), Body 4.9 x 3.9 mm, Pitch 1.27 mm; Supplier 1: Digi-Key; Supplier Part Number 1: LT1129IS8#PBF-ND; Supplier 2: Farnell; Supplier Part Number 2: 1663378; Supplier 3: Newark; Supplier Part Number 3: 57M2118; RoHS: TRUE; Vout Max(V): 30; Mounting Technology: Surface Mount; ComponentLink1Description: Manufacturer URL; ComponentLink1URL: http://www.linear.com/; ComponentLink2Description: Datasheet; ComponentLink2URL: http://cds.linear.com/docs/en/datasheet/112935ff.pdf; ComponentLink3Description: Package Specification; ComponentLink3URL: http://cds.linear.com/docs/en/packaging/05081610_G_SO8.pdf
footprint LT-S8-8_N (SOIC, 8-Leads, Body 4.9x3.9mm, Pitch 1.27mm, IPC Medium Density)
footprint LT-S8-8_L (SOIC, 8-Leads, Body 4.9x3.9mm, Pitch 1.27mm, IPC High Density)
footprint LT-S8-8_M (SOIC, 8-Leads, Body 4.9x3.9mm, Pitch 1.27mm, IPC Low Density)
pins: 1 OUT (power) "The output pin supplies power to the load. An output capacitor is required to prevent oscillations. See the Applications Information section for recommended value of output capacitance and information on reverse  output (See Datasheet)", 2 ADJ (in) "For the LT1129 (adjustable version) the adjust pin is the input to the error amplifier. This pin is internally clamped to 6V and -0.6V (one VBE). This pin has a bias current of 150nA which ?ows into the pin. See B(See Datasheet)", 3 GND (power), 4 NC, 5 ~{SHDN} (in) "This pin is used to put the device  into shutdown. In shutdown the output of the device is turned off. This pin is active low. The device will be shut down if the shutdown pin is actively pulled low. The  shutdown pin (See Datasheet)", 6 GND (power), 7 GND (power), 8 VIN (power) "Power is supplied to the device through the input pin. The input pin should be bypassed to ground if the device is more than 6 inches away from the main input ?lter capacitor. In general, the output impedance of a batter(See Datasheet)"

## LT1129IS8#TR
designator U?
Micropower Low Dropout Regulator with Shutdown, 4.15 to 30 V Vin, Adjustable Vout, 8-pin SOIC (S8-8), -40 to 125 degC, Tape and Reel; Manufacturer: Linear Technology; PartNumber: LT1129IS8#TR; Discrete Pass Element: no; Dropout Voltage(V): 0.45; Iout(mA): 700; Isupply(mA): 0.05; Number of Outputs: 1; Output Voltage: Adj; PSRR(dB): 64; Shutdown Current(uA): 16; Vin Max(V): 30; Vin Min(V): 4.15; Vout Min(V): 3.8; DatasheetVersion: Rev. F; PackageVersion: Rev. G, 03/2012; PackageReference: S8-8; PackageDescription: 8-Pin Plastic Small Outline (Narrow .150 Inch), Body 4.9 x 3.9 mm, Pitch 1.27 mm; Supplier 1: Digi-Key; Supplier Part Number 1: LT1129IS8#TR-ND; Supplier 2: Newark; Supplier Part Number 2: 57M2119; Packing: Tape and Reel; RoHS: FALSE; Vout Max(V): 30; Mounting Technology: Surface Mount; ComponentLink1Description: Manufacturer URL; ComponentLink1URL: http://www.linear.com/; ComponentLink2Description: Datasheet; ComponentLink2URL: http://cds.linear.com/docs/en/datasheet/112935ff.pdf; ComponentLink3Description: Package Specification; ComponentLink3URL: http://cds.linear.com/docs/en/packaging/05081610_G_SO8.pdf
footprint LT-S8-8_N (SOIC, 8-Leads, Body 4.9x3.9mm, Pitch 1.27mm, IPC Medium Density)
footprint LT-S8-8_L (SOIC, 8-Leads, Body 4.9x3.9mm, Pitch 1.27mm, IPC High Density)
footprint LT-S8-8_M (SOIC, 8-Leads, Body 4.9x3.9mm, Pitch 1.27mm, IPC Low Density)
pins: 1 OUT (power) "The output pin supplies power to the load. An output capacitor is required to prevent oscillations. See the Applications Information section for recommended value of output capacitance and information on reverse  output (See Datasheet)", 2 ADJ (in) "For the LT1129 (adjustable version) the adjust pin is the input to the error amplifier. This pin is internally clamped to 6V and -0.6V (one VBE). This pin has a bias current of 150nA which ?ows into the pin. See B(See Datasheet)", 3 GND (power), 4 NC, 5 ~{SHDN} (in) "This pin is used to put the device  into shutdown. In shutdown the output of the device is turned off. This pin is active low. The device will be shut down if the shutdown pin is actively pulled low. The  shutdown pin (See Datasheet)", 6 GND (power), 7 GND (power), 8 VIN (power) "Power is supplied to the device through the input pin. The input pin should be bypassed to ground if the device is more than 6 inches away from the main input ?lter capacitor. In general, the output impedance of a batter(See Datasheet)"

## LT1129IS8#TRPBF
designator U?
Micropower Low Dropout Regulator with Shutdown, 4.15 to 30 V Vin, Adjustable Vout, 8-pin SOIC (S8-8), -40 to 125 degC, Pb-Free, Tape and Reel; Manufacturer: Linear Technology; PartNumber: LT1129IS8#TRPBF; Discrete Pass Element: no; Dropout Voltage(V): 0.45; Iout(mA): 700; Isupply(mA): 0.05; Number of Outputs: 1; Output Voltage: Adj; PSRR(dB): 64; Shutdown Current(uA): 16; Vin Max(V): 30; Vin Min(V): 4.15; Vout Min(V): 3.8; DatasheetVersion: Rev. F; PackageVersion: Rev. G, 03/2012; PackageReference: S8-8; PackageDescription: 8-Pin Plastic Small Outline (Narrow .150 Inch), Body 4.9 x 3.9 mm, Pitch 1.27 mm; Supplier 1: Digi-Key; Supplier Part Number 1: LT1129IS8#TRPBF-ND; Supplier 2: Newark; Supplier Part Number 2: 57M2120; Packing: Tape and Reel; RoHS: TRUE; Vout Max(V): 30; Mounting Technology: Surface Mount; ComponentLink1Description: Manufacturer URL; ComponentLink1URL: http://www.linear.com/; ComponentLink2Description: Datasheet; ComponentLink2URL: http://cds.linear.com/docs/en/datasheet/112935ff.pdf; ComponentLink3Description: Package Specification; ComponentLink3URL: http://cds.linear.com/docs/en/packaging/05081610_G_SO8.pdf
footprint LT-S8-8_N (SOIC, 8-Leads, Body 4.9x3.9mm, Pitch 1.27mm, IPC Medium Density)
footprint LT-S8-8_L (SOIC, 8-Leads, Body 4.9x3.9mm, Pitch 1.27mm, IPC High Density)
footprint LT-S8-8_M (SOIC, 8-Leads, Body 4.9x3.9mm, Pitch 1.27mm, IPC Low Density)
pins: 1 OUT (power) "The output pin supplies power to the load. An output capacitor is required to prevent oscillations. See the Applications Information section for recommended value of output capacitance and information on reverse  output (See Datasheet)", 2 ADJ (in) "For the LT1129 (adjustable version) the adjust pin is the input to the error amplifier. This pin is internally clamped to 6V and -0.6V (one VBE). This pin has a bias current of 150nA which ?ows into the pin. See B(See Datasheet)", 3 GND (power), 4 NC, 5 ~{SHDN} (in) "This pin is used to put the device  into shutdown. In shutdown the output of the device is turned off. This pin is active low. The device will be shut down if the shutdown pin is actively pulled low. The  shutdown pin (See Datasheet)", 6 GND (power), 7 GND (power), 8 VIN (power) "Power is supplied to the device through the input pin. The input pin should be bypassed to ground if the device is more than 6 inches away from the main input ?lter capacitor. In general, the output impedance of a batter(See Datasheet)"